# Altium footprint library PCB1.PcbLib: 28 footprints (part 2 of 2)
Each footprint in its own frame and in the unit in brackets; x right, y up, seen from the top. Pads: shape width x height; smd on the part's side, far side on the other; paste and mask are expansions set on the pad; w line width, h text height; cw(c..) or ccw(c..) is an arc to the next point about the centre after c.
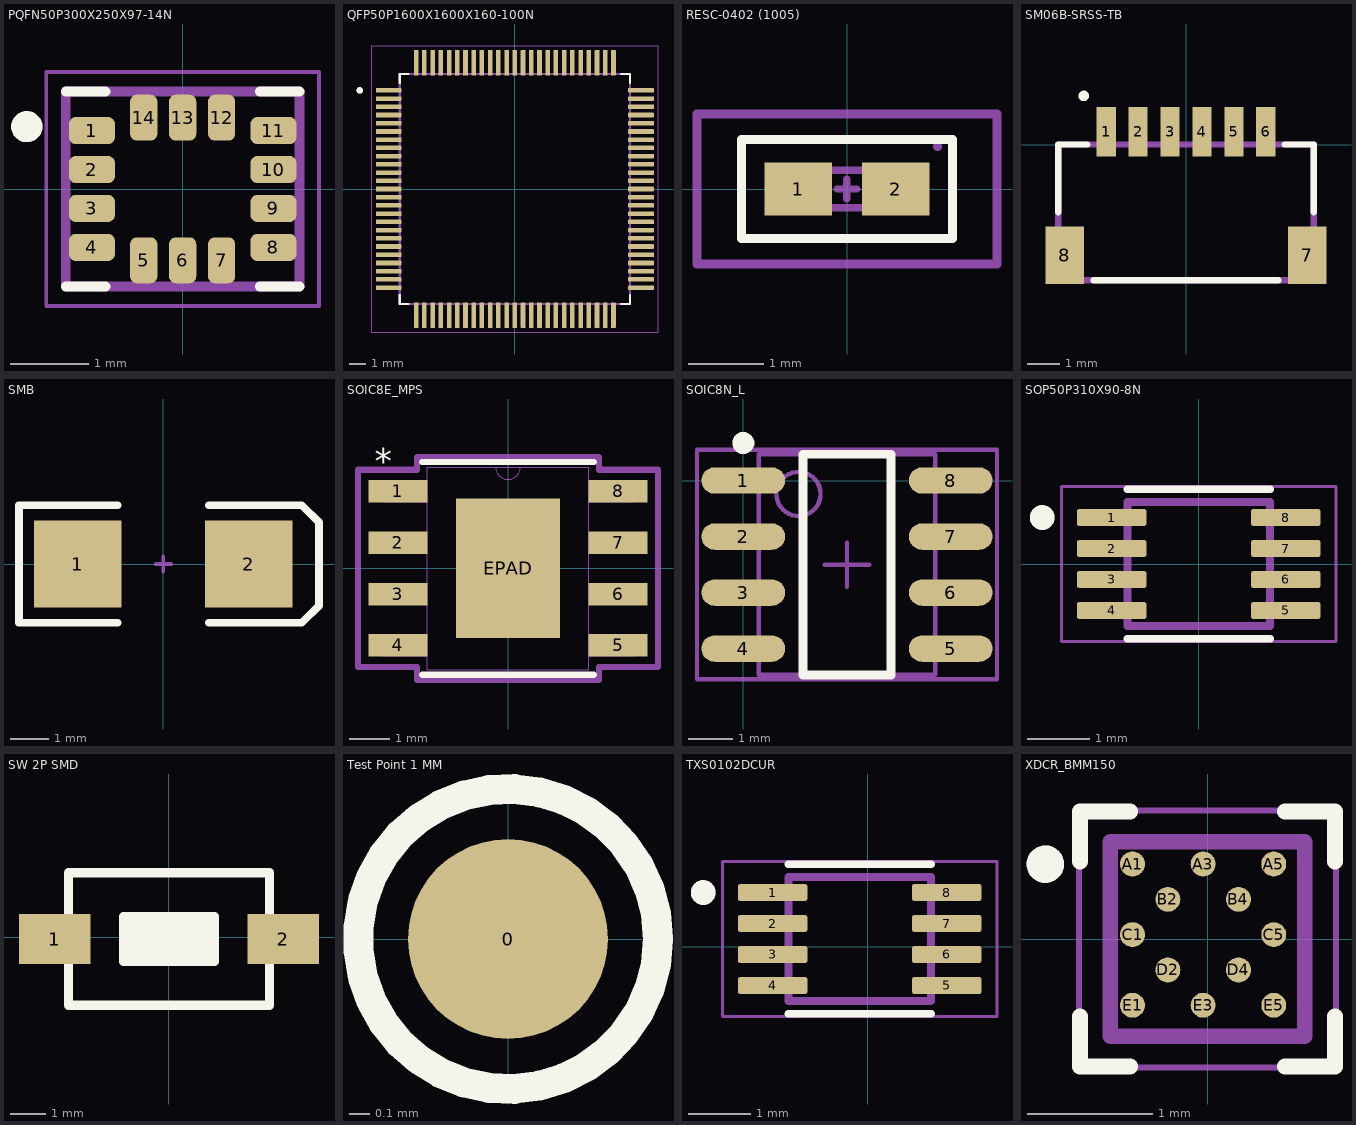
[diagram p1: the footprints below, top view; thin cyan lines are the x and y axes]

## PQFN50P300X250X97-14N [mm]
height 19.3
pads (14):
  rrect50% 0.59x0.35 smd mask+0: 1(-1.165,0.75) 2(-1.165,0.25) 3(-1.165,-0.25) 4(-1.165,-0.75) 8(1.165,-0.75) 9(1.165,-0.25) 10(1.165,0.25) 11(1.165,0.75)
  rrect50% 0.35x0.59 smd mask+0: 5(-0.5,-0.915) 6(0,-0.915) 7(0.5,-0.915) 12(0.5,0.915) 13(0,0.915) 14(-0.5,0.915)
Top Overlay:
  circle w0.2: c-2,0.8 r0.1
  lines w0.127: -1.5,-1.25 -0.99,-1.25 ; -1.5,1.25 -0.99,1.25 ; 0.99,-1.25 1.5,-1.25 ; 0.99,1.25 1.5,1.25
Top Solder:
  drawing of 14 lines, arcs and shapes, not listed
Top 3D Body:
  circle w0.2: c-2,0.8 r0.1
  lines w0.127: -1.5,-1.25 1.5,-1.25 1.5,1.25 -1.5,1.25 -1.5,-1.25
Top Courtyard:
  lines w0.05: -1.75,-1.5 1.75,-1.5 1.75,1.5 -1.75,1.5 -1.75,-1.5

## QFP50P1600X1600X160-100N [mm]
height 1.6
pads (100):
  rrect25% 1.56x0.28 smd: 1(-7.68,6) 2(-7.68,5.5) 3(-7.68,5) 4(-7.68,4.5) 5(-7.68,4) 6(-7.68,3.5) 7(-7.68,3) 8(-7.68,2.5) 9(-7.68,2) 10(-7.68,1.5) 11(-7.68,1) 12(-7.68,0.5) 13(-7.68,0) 14(-7.68,-0.5) 15(-7.68,-1) 16(-7.68,-1.5) 17(-7.68,-2) 18(-7.68,-2.5) 19(-7.68,-3) 20(-7.68,-3.5) 21(-7.68,-4) 22(-7.68,-4.5) 23(-7.68,-5) 24(-7.68,-5.5) 25(-7.68,-6) 51(7.68,-6) 52(7.68,-5.5) 53(7.68,-5) 54(7.68,-4.5) 55(7.68,-4) 56(7.68,-3.5) 57(7.68,-3) 58(7.68,-2.5) 59(7.68,-2) 60(7.68,-1.5) 61(7.68,-1) 62(7.68,-0.5) 63(7.68,0) 64(7.68,0.5) 65(7.68,1) 66(7.68,1.5) 67(7.68,2) 68(7.68,2.5) 69(7.68,3) 70(7.68,3.5) 71(7.68,4) 72(7.68,4.5) 73(7.68,5) 74(7.68,5.5) 75(7.68,6)
  rrect25% 0.28x1.56 smd: 26(-6,-7.68) 27(-5.5,-7.68) 28(-5,-7.68) 29(-4.5,-7.68) 30(-4,-7.68) 31(-3.5,-7.68) 32(-3,-7.68) 33(-2.5,-7.68) 34(-2,-7.68) 35(-1.5,-7.68) 36(-1,-7.68) 37(-0.5,-7.68) 38(0,-7.68) 39(0.5,-7.68) 40(1,-7.68) 41(1.5,-7.68) 42(2,-7.68) 43(2.5,-7.68) 44(3,-7.68) 45(3.5,-7.68) 46(4,-7.68) 47(4.5,-7.68) 48(5,-7.68) 49(5.5,-7.68) 50(6,-7.68) 76(6,7.68) 77(5.5,7.68) 78(5,7.68) 79(4.5,7.68) 80(4,7.68) 81(3.5,7.68) 82(3,7.68) 83(2.5,7.68) 84(2,7.68) 85(1.5,7.68) 86(1,7.68) 87(0.5,7.68) 88(0,7.68) 89(-0.5,7.68) 90(-1,7.68) 91(-1.5,7.68) 92(-2,7.68) 93(-2.5,7.68) 94(-3,7.68) 95(-3.5,7.68) 96(-4,7.68) 97(-4.5,7.68) 98(-5,7.68) 99(-5.5,7.68) 100(-6,7.68)
Top Overlay:
  circle w0.2: c-9.44,6 r0.1
  lines w0.127: -7,-6.46 -7,-7 -6.46,-7 ; -7,6.46 -7,7 -6.46,7 ; 6.46,-7 7,-7 7,-6.46 ; 6.46,7 7,7 7,6.46
Top 3D Body:
  circle w0.2: c-9.44,6 r0.1
  lines w0.127: -7,-7 -7,7 7,7 7,-7 -7,-7
Top Courtyard:
  lines w0.05: -8.71,-8.71 -8.71,8.71 8.71,8.71 8.71,-8.71 -8.71,-8.71
3D body "step_temp.STEP": height 1.6, standoff 0, extent -8,-8 8,8

## RESC-0402 (1005) [mm] "Resistor Chip, Body 1.0x0.5mm, IPC High Density"
height 0.55
pads (2):
  rect 0.9x0.7 smd mask+0.1: 1(-0.65,0) 2(0.65,0)
Top Overlay:
  lines w0.12: -1.41,-0.66 1.41,-0.66 1.41,0.66 -1.41,0.66 -1.41,-0.66
Top 3D Body:
  lines w0.1: -0.127,0 0.127,0 ; 0,-0.127 0,0.127 ; -0.5,-0.25 -0.5,0.25 0.5,0.25 0.5,-0.25 -0.5,-0.25
Top Courtyard:
  lines w0.12: -2,-1 2,-1 2,1 -2,1 -2,-1 ; 1.205,0.565 1.205,0.565
  text ".Designator" at -0.94,-0.178 h0.64
3D body "User Library-RESC1005X04N.step": height 0.35, standoff 0, extent -0.5,-0.25 0.5,0.25

## SM06B-SRSS-TB [mm]
height 19.3
pads (8):
  rect 0.6x1.55 smd: 1(-2.5,0.4) 2(-1.5,0.4) 3(-0.5,0.4) 4(0.5,0.4) 5(1.5,0.4) 6(2.5,0.4)
  rect 1.2x1.8 smd: 7(3.8,-3.475) 8(-3.8,-3.475)
Top Overlay:
  circle w0.2: c-3.204,1.523 r0.064
  lines w0.2: -4,-2.125 -4,0 -3.1,0 ; -2.9,-4.25 2.9,-4.25 ; 3.1,0 4,0 4,-2.125
Top 3D Body:
  lines w0.2: -4,-4.25 -4,0 4,0 4,-4.25 -4,-4.25
3D body "SM06B-SRSS-TB__LF__SN_.stp": height 2.96, standoff 0.01, extent -4.005,-4.183 3.995,0.767

## SMB [mm] "DO-214-AA/SMB; 2 C-Bend Leads; Body 5.3 x 3.6 mm, inc. leads (LxW)"
height 2.54
pads (2):
  rect 2.3x2.3 smd: 1(-2.25,0) 2(2.25,0)
Top Overlay:
  lines w0.2: -1.2,-1.55 -3.8,-1.55 -3.8,1.55 -1.2,1.55 ; 1.2,-1.55 3.65,-1.55 4.1,-1.1 4.1,1.1 3.65,1.55 1.2,1.55
Mechanical 1:
  lines w0.1: -0.2,0 0.2,0 ; 0,-0.2 0,0.2

## SOIC8E_MPS [mil]
height 759.84
pads (9):
  rect 57.5x22 smd paste+0 mask+0: 1(-107.25,75) 2(-107.25,25) 3(-107.25,-25) 4(-107.25,-75) 5(107.25,-75) 6(107.25,-25) 7(107.25,25) 8(107.25,75)
  rect 101x136 smd paste-67.5 mask+0: EPAD(0,0)
Top Overlay:
  lines w6: -83.5,-103.5 83.5,-103.5 ; -83.5,103.5 83.5,103.5
  text "*" at -129.75,92 h25
Top Paste:
  region: 46.56,-3.94 3.94,-3.94 3.94,-64.06 46.56,-64.06
  region: 46.56,64.06 3.94,64.06 3.94,3.94 46.56,3.94
  region: -3.94,-3.94 -46.56,-3.94 -46.56,-64.06 -3.94,-64.06
  region: -3.94,64.06 -46.56,64.06 -46.56,3.94 -3.94,3.94
Top 3D Body:
  lines w0: -12,98.5 ccw(c0,98.5) 12,98.5
  lines w1: -122,-85 -78.5,-85 -78.5,-65 -122,-65 -122,-85 ; -122,-35 -78.5,-35 -78.5,-15 -122,-15 -122,-35 ; -122,15 -78.5,15 -78.5,35 -122,35 -122,15 ; -122,65 -78.5,65 -78.5,85 -122,85 -122,65 ; -78.5,-98.5 -78.5,98.5 78.5,98.5 78.5,-98.5 -78.5,-98.5 ; 78.5,-85 122,-85 122,-65 78.5,-65 78.5,-85 ; 78.5,-35 122,-35 122,-15 78.5,-15 78.5,-35 ; 78.5,15 122,15 122,35 78.5,35 78.5,15 ; 78.5,65 122,65 122,85 78.5,85 78.5,65
  text "*" at -76,45.5 h25
Top Courtyard:
  lines w6: -146,-96 -88.5,-96 -88.5,-108.5 88.5,-108.5 88.5,-96 146,-96 146,96 88.5,96 88.5,108.5 -88.5,108.5 -88.5,96 -146,96 -146,-96
3D body "SOIC8E_MPS.step": height 67.09, standoff -2.01, extent -122.01,-98.5 122.01,98.5
3D body "SOIC8E_MPS.step": height 67.09, standoff -2.01, extent -122.01,-98.51 122,98.5

## SOIC8N_L [mm]
height 19.3
pads (8):
  oval 1.9x0.6 smd: 1(0,0) 2(0,-1.27) 3(0,-2.54) 4(0,-3.81) 5(4.7,-3.81) 6(4.7,-2.54) 7(4.7,-1.27) 8(4.7,0)
Top Overlay:
  circle w0.25: c0,0.85 r0.125
  lines w0.2: 1.35,-4.405 1.35,0.595 3.35,0.595 3.35,-4.405 1.35,-4.405
Top 3D Body:
  circle w0.1: c1.25,-0.305 r0.5
  lines w0.1: 0.35,-4.405 0.35,0.595 4.35,0.595 4.35,-4.405 0.35,-4.405
Top Courtyard:
  lines w0.1: 1.85,-1.905 2.85,-1.905 ; 2.35,-2.405 2.35,-1.405 ; -1.05,-4.505 -1.05,0.695 5.75,0.695 5.75,-4.505 -1.05,-4.505
3D body: height 1.75, standoff 0, extent 0.35,-4.405 4.35,0.595

## SOP50P310X90-8N [mm]
height 19.3
pads (8):
  rrect25% 1.12x0.27 smd: 1(-1.405,0.75) 2(-1.405,0.25) 3(-1.405,-0.25) 4(-1.405,-0.75) 5(1.405,-0.75) 6(1.405,-0.25) 7(1.405,0.25) 8(1.405,0.75)
Top Overlay:
  circle w0.2: c-2.525,0.75 r0.1
  lines w0.127: -1.15,-1.205 1.15,-1.205 ; -1.15,1.205 1.15,1.205
Top 3D Body:
  circle w0.2: c-2.525,0.75 r0.1
  lines w0.127: -1.15,-1 1.15,-1 1.15,1 -1.15,1 -1.15,-1
Top Courtyard:
  lines w0.05: -2.215,-1.25 2.215,-1.25 2.215,1.25 -2.215,1.25 -2.215,-1.25
3D body "step_temp.STEP": height 0.9, standoff 0, extent -1.55,-1 1.55,1

## SW 2P SMD [mm]
height 19.3
pads (2):
  rect 2x1.4 smd: 1(-3.2,-0.051) 2(3.2,-0.051)
Top Overlay:
  rectangle: -1.27,-0.686 1.27,0.584
  lines w0.254: -2.819,-0.762 -2.819,-1.905 2.819,-1.905 2.819,-0.762 ; -2.819,0.66 -2.819,1.803 2.819,1.803 2.819,0.66 ; -1.27,-0.686 -1.27,0.584 1.27,0.584 1.27,-0.686 -1.27,-0.686
3D body "User Library-Button-SMD.step": height 2.5, standoff 0, extent -3.05,-1.901 3.05,1.799

## Test Point 1 MM [mm] "Test Point 1 MM"
height 19.3
pads (1):
  round 1 smd: 0(0,0)
Top Overlay:
  circle w0.15: c0,0 r0.75

## TXS0102DCUR [mm]
height 19.3
pads (8):
  rrect25% 1.12x0.27 smd: 1(-1.532,0.877) 2(-1.532,0.377) 3(-1.532,-0.123) 4(-1.532,-0.623) 5(1.278,-0.623) 6(1.278,-0.123) 7(1.278,0.377) 8(1.278,0.877)
Top Overlay:
  circle w0.2: c-2.652,0.877 r0.1
  lines w0.127: -1.277,-1.078 1.023,-1.078 ; -1.277,1.332 1.023,1.332
Top 3D Body:
  circle w0.2: c-2.652,0.877 r0.1
  lines w0.127: -1.277,-0.873 -1.277,1.127 1.023,1.127 1.023,-0.873 -1.277,-0.873
Top Courtyard:
  lines w0.05: -2.342,-1.123 -2.342,1.377 2.088,1.377 2.088,-1.123 -2.342,-1.123
3D body "step_temp.STEP": height 0.9, standoff 0, extent -1.677,-0.873 1.423,1.127

## XDCR_BMM150 [mm]
height 19.3
pads (12):
  round 0.2 smd: A1(-0.601,0.601) A3(-0.035,0.601) A5(0.531,0.601) B2(-0.318,0.318) B4(0.248,0.318) C1(-0.601,0.035) C5(0.531,0.035) D2(-0.318,-0.248) D4(0.248,-0.248) E1(-0.601,-0.531) E3(-0.035,-0.531) E5(0.531,-0.531)
Top Overlay:
  circle w0.15: c-1.3,0.6 r0.075
  lines w0.127: -1.021,-0.62 -1.021,-1.021 -0.62,-1.021 ; -1.021,0.62 -1.021,1.021 -0.62,1.021 ; 0.62,-1.021 1.021,-1.021 1.021,-0.62 ; 0.62,1.021 1.021,1.021 1.021,0.62
Top 3D Body:
  circle w0.15: c-1.3,0.6 r0.075
  lines w0.127: -0.78,-0.78 -0.78,0.78 0.78,0.78 0.78,-0.78 -0.78,-0.78
Top Courtyard:
  lines w0.05: -1.03,-1.03 -1.03,1.03 1.03,1.03 1.03,-1.03 -1.03,-1.03
3D body "step_temp.STEP": height 0.6, standoff 0, extent -0.78,-0.78 0.78,0.78